# EAGLE library part AD8133 (library analog-devices)
Triple Differential Driver With Output Pull-Down Source: http://www.analog.com .. 3832984220209AD8133_0.pdf
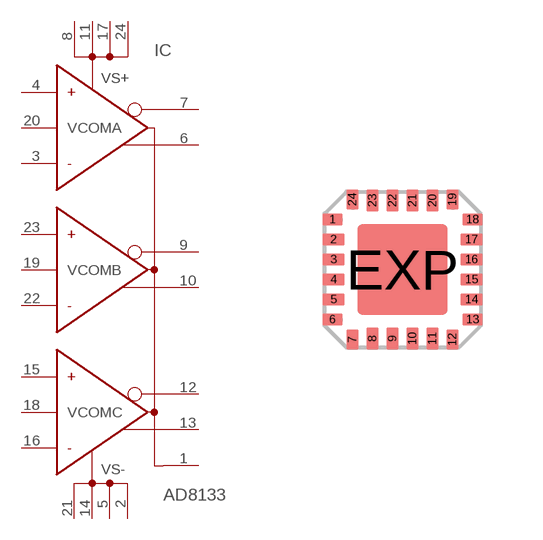
[diagram p109: symbol with the pads of LFCSP24; footprint LFCSP24]

Designator prefix IC

## AD8133 (MF: ALTERA CORPORATION; MPN: AD8133ACPZ-REEL7; OC_FARNELL: unknown; OC_NEWARK: 59K6409)  [LFCSP24]
1  OPD  in
2  VS-  pwr
3  -INA  in
4  +INA  in
5  VS-  pwr
6  -OUTA  out
7  +OUTA  out
8  VS+  pwr
9  +OUTB  out
10  -OUTB  out
11  VS+  pwr
12  +OUTC  out
13  -OUTC  out
14  VS-  pwr
15  +INC  in
16  -INC  in
17  VS+  pwr
18  VCOMC  in
19  VCOMB  in
20  VCOMA  in
21  VS-  pwr
22  -INB  in
23  +INB  in
24  VS+  pwr

## Footprint LFCSP24 (pad centres in mm)
24-Lead Lead Frame Chip Scale Package 4 mm × 4 mm (CP-24) Source: www.analog.com .. 3832984220209AD8133_0.pdf
smd 0.5 x 0.3: 1 -1.75,1.25; 6 -1.75,-1.25; 13 1.75,-1.25; 18 1.75,1.25
smd 0.55 x 0.3: 2 -1.725,0.75; 3 -1.725,0.25; 4 -1.725,-0.25; 5 -1.725,-0.75; 14 1.725,-0.75; 15 1.725,-0.25; 16 1.725,0.25; 17 1.725,0.75
smd 0.3 x 0.5: 7 -1.25,-1.75; 12 1.25,-1.75; 19 1.25,1.75; 24 -1.25,1.75
smd 0.3 x 0.55: 8 -0.75,-1.725; 9 -0.25,-1.725; 10 0.25,-1.725; 11 0.75,-1.725; 20 0.75,1.725; 21 0.25,1.725; 22 -0.25,1.725; 23 -0.75,1.725
smd 2.25 x 2.25: EXP 0,0